# EAGLE library part LIGHTAPRS (library Breakouts)
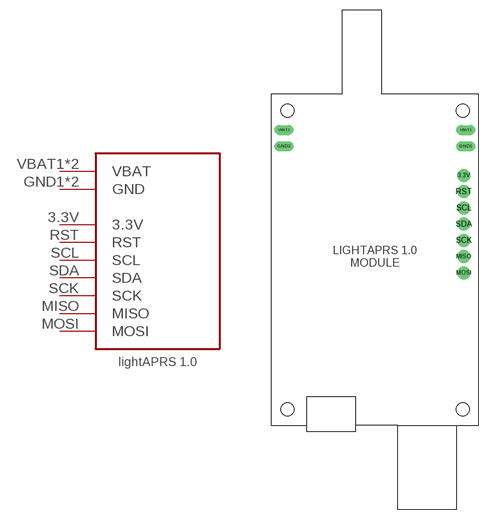
[diagram p2: symbol with the pads of LIGHTAPRS; footprint LIGHTAPRS]

Designator prefix -

## LIGHTAPRS  [LIGHTAPRS]
3.3V  3.3V
GND1  GND
GND2  GND
MISO  MISO
MOSI  MOSI
RST  RST
SCK  SCK
SCL  SCL
SDA  SDA
VBAT1  VBAT
VBAT2  VBAT

## Footprint LIGHTAPRS (pad centres in mm)
drill 1 pad 2: 3.3V 13.7,12.5; MISO 13.7,0; MOSI 13.7,-2.5; RST 13.7,10; SCK 13.7,2.5; SCL 13.7,7.5; SDA 13.7,5
drill 1 long: GND1 14,17; GND2 -14,17; VBAT1 14,19.5; VBAT2 -14,19.5
hole 2 at 13.5,22.5
hole 2 at -13.5,22.5
hole 2 at -13.5,-23.5
hole 2 at 13.5,-23.5